# Altium footprint library TMK07_V1.0_A.PcbLib: 1 footprints
Each footprint in its own frame and in the unit in brackets; x right, y up, seen from the top. Pads: shape width x height; smd on the part's side, far side on the other; paste and mask are expansions set on the pad; w line width, h text height; cw(c..) or ccw(c..) is an arc to the next point about the centre after c.
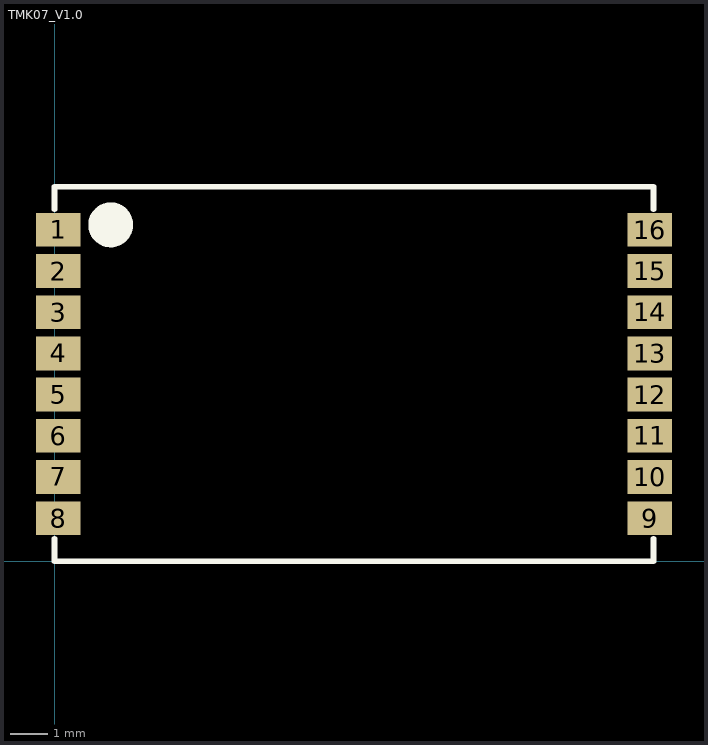
[diagram p0: the footprint, top view; thin cyan lines are the x and y axes]

## TMK07_V1.0 [mm]
pads (16):
  rect 1.2x0.9 smd: 1(0.1,8.85) 2(0.1,7.75) 3(0.1,6.65) 4(0.1,5.55) 5(0.1,4.45) 6(0.1,3.35) 7(0.1,2.25) 8(0.1,1.15) 9(15.9,1.15) 10(15.9,2.25) 11(15.9,3.35) 12(15.9,4.45) 13(15.9,5.55) 14(15.9,6.65) 15(15.9,7.75) 16(15.9,8.85)
Top Overlay:
  circle w0.6: c1.5,8.985 r0.3
  lines w0.15: 0,0.6 0,0 16,0 16,0.6 ; 0,9.4 0,10 16,10 16,9.4